# Altium footprint library SmartTokens.PcbLib: 28 footprints (part 1 of 2)
Each footprint in its own frame and in the unit in brackets; x right, y up, seen from the top. Pads: shape width x height; smd on the part's side, far side on the other; paste and mask are expansions set on the pad; w line width, h text height; cw(c..) or ccw(c..) is an arc to the next point about the centre after c.
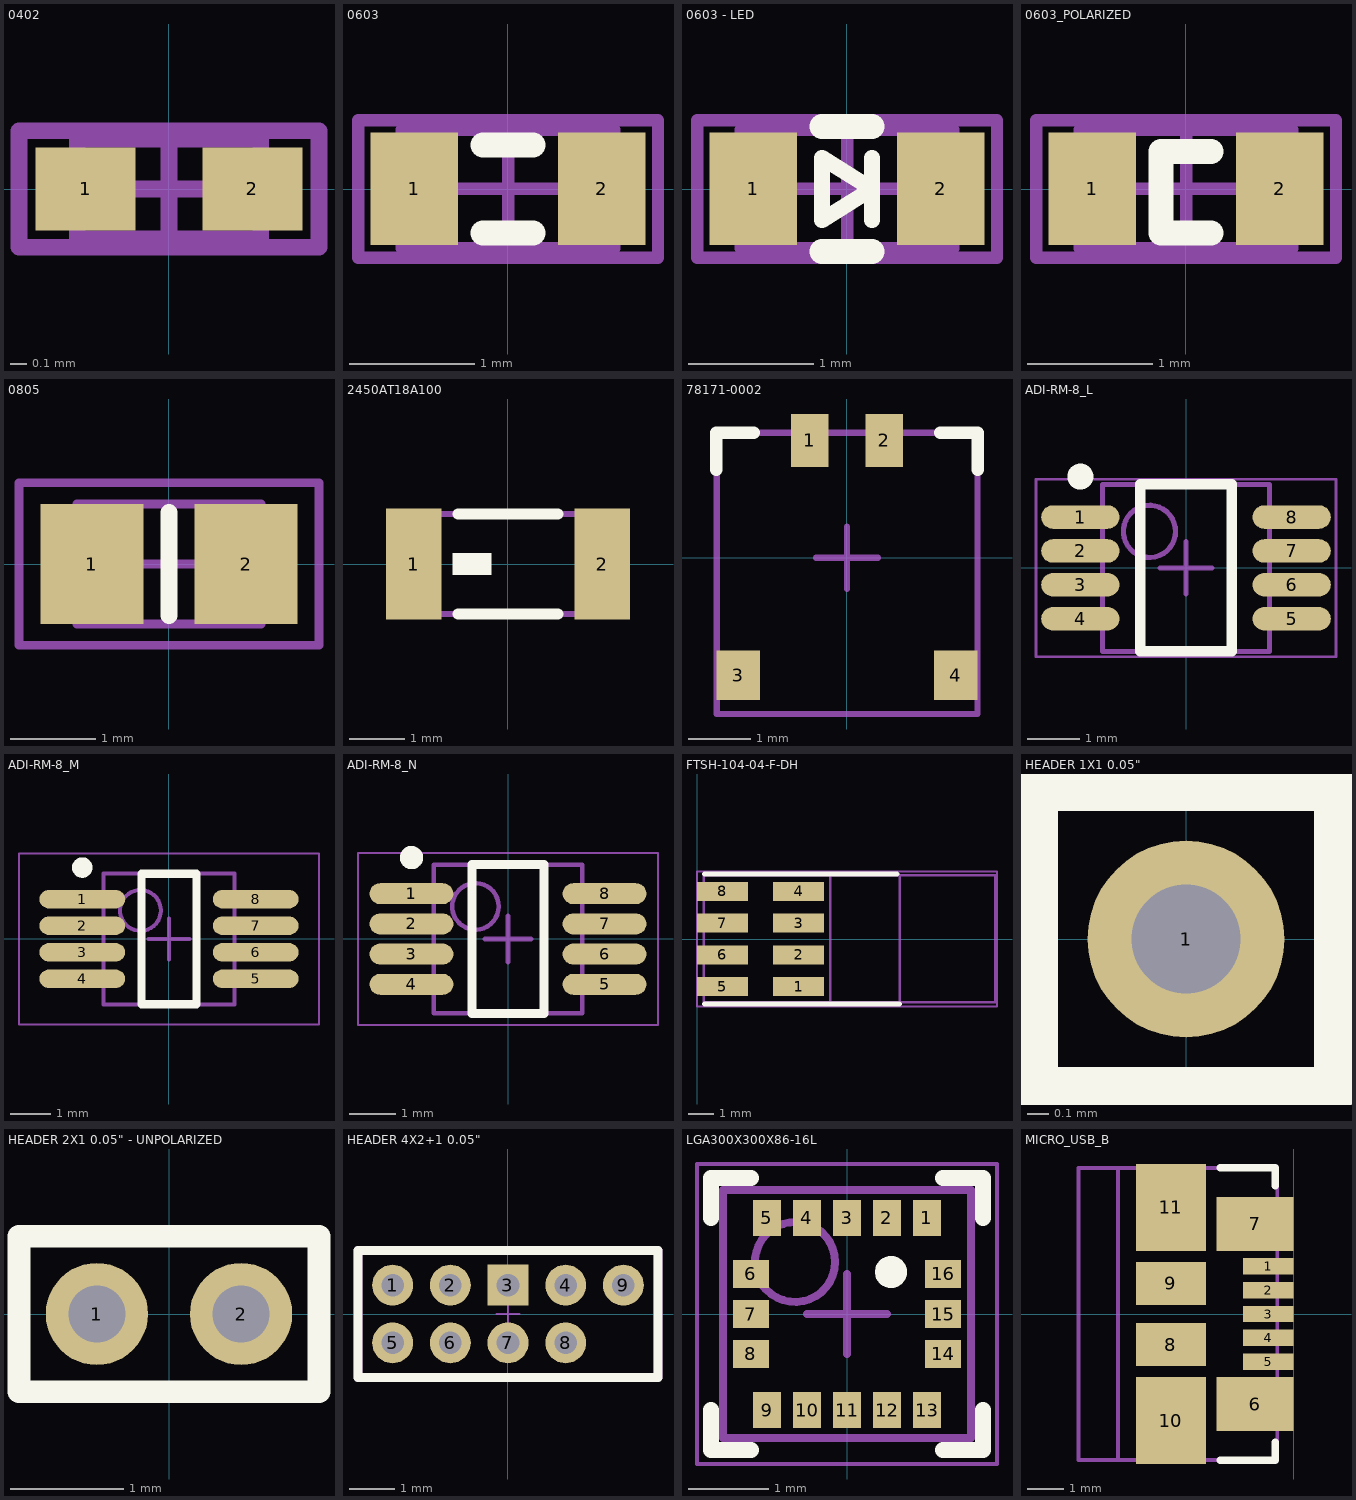
[diagram p0: the footprints below, top view; thin cyan lines are the x and y axes]

## 0402 [mm] "Chip Body 1.0 x 0.5 mm (LxW typ)"
height 0.55
pads (2):
  rect 0.6x0.5 smd: 1(-0.5,0) 2(0.5,0)
Mechanical 13:
  lines w0.1: -0.55,-0.3 -0.55,0.3 0.55,0.3 0.55,-0.3 -0.55,-0.3
Mechanical 15:
  lines w0.1: -0.3,0 0.3,0 ; 0,-0.3 0,0.3 ; -0.9,-0.35 -0.9,0.35 0.9,0.35 0.9,-0.35 -0.9,-0.35
3D body: height 0.55, standoff 0, extent -0.55,-0.3 0.55,0.3

## 0603 [mm] "Chip Body 1.6 x 0.8 mm (LxW typ)"
height 0.87
pads (2):
  rect 0.7x0.9 smd: 1(-0.75,0) 2(0.75,0)
Top Overlay:
  lines w0.2: -0.2,-0.35 0.2,-0.35 ; -0.2,0.35 0.2,0.35
Mechanical 13:
  lines w0.1: -0.85,-0.475 -0.85,0.475 0.85,0.475 0.85,-0.475 -0.85,-0.475
Mechanical 15:
  lines w0.1: -0.475,0 0.475,0 ; 0,-0.475 0,0.475 ; -1.2,-0.55 -1.2,0.55 1.2,0.55 1.2,-0.55 -1.2,-0.55
3D body: height 0.9, standoff 0, extent -0.85,-0.475 0.85,0.475

## 0603 - LED [mm] "Chip Body 1.6 x 0.8 mm (LxW typ)"
height 0.87
pads (2):
  rect 0.7x0.9 smd: 1(-0.75,0) 2(0.75,0)
Top Overlay:
  lines w0.125: 0.2,-0.25 0.2,0.25 ; -0.2,-0.25 0.2,0 -0.2,0.25 -0.2,-0.25
  lines w0.2: -0.2,-0.5 0.2,-0.5 ; -0.2,0.5 0.2,0.5
Mechanical 13:
  lines w0.1: -0.85,-0.475 -0.85,0.475 0.85,0.475 0.85,-0.475 -0.85,-0.475
Mechanical 15:
  lines w0.1: -0.475,0 0.475,0 ; 0,-0.475 0,0.475 ; -1.2,-0.55 -1.2,0.55 1.2,0.55 1.2,-0.55 -1.2,-0.55
3D body: height 0.9, standoff 0, extent -0.85,-0.475 0.85,0.475

## 0603_POLARIZED [mm] "Chip Body 1.6 x 0.8 mm (LxW typ)"
height 0.87
pads (2):
  rect 0.7x0.9 smd: 1(-0.75,0) 2(0.75,0)
Top Overlay:
  lines w0.2: 0.2,-0.35 -0.2,-0.35 -0.2,0.3 0.2,0.3
Mechanical 13:
  lines w0.1: -0.85,-0.475 -0.85,0.475 0.85,0.475 0.85,-0.475 -0.85,-0.475
Mechanical 15:
  lines w0.1: -0.475,0 0.475,0 ; 0,-0.475 0,0.475 ; -1.2,-0.55 -1.2,0.55 1.2,0.55 1.2,-0.55 -1.2,-0.55
3D body: height 0.9, standoff 0, extent -0.85,-0.475 0.85,0.475

## 0805 [mm] "Chip Body 2.0 x 1.2 mm (LxW typ)"
height 1.3
pads (2):
  rect 1.2x1.4 smd: 1(-0.9,0) 2(0.9,0)
Top Overlay:
  lines w0.2: 0,-0.6 0,0.6
Mechanical 13:
  lines w0.1: -1.075,-0.7 -1.075,0.7 1.075,0.7 1.075,-0.7 -1.075,-0.7
Mechanical 15:
  lines w0.1: -0.5,0 0.5,0 ; 0,-0.5 0,0.5 ; -1.75,-0.95 -1.75,0.95 1.75,0.95 1.75,-0.95 -1.75,-0.95
3D body: height 1.3, standoff 0, extent -1.075,-0.7 1.075,0.7

## 2450AT18A100 [mm]
pads (2):
  rect 1x2 smd: 1(-1.7,0) 2(1.7,0)
Top Overlay:
  rectangle: -1,-0.2 -0.3,0.2
  lines w0.2: -0.9,-0.9 0.9,-0.9 ; -0.9,0.9 0.9,0.9
Mechanical 1:
  lines w0.1: -1.7,-0.9 1.7,-0.9 1.7,0.9 -1.7,0.9 -1.7,-0.9
3D body: height 1.9, standoff 0, extent -1.7,-0.9 1.7,0.9

## 78171-0002 [mm]
height 1.55
pads (4):
  rect 0.6x0.85 smd: 1(-0.6,1.888) 2(0.6,1.888)
  rect 0.7x0.8 smd: 3(-1.75,-1.887) 4(1.75,-1.887)
Top Overlay:
  lines w0.2: -2.1,1.413 -2.1,2.013 -1.5,2.013 ; 1.5,2.013 2.1,2.013 2.1,1.413
Mechanical 1:
  lines w0.1: -2.095,-2.512 2.1,-2.512 2.1,2.013 -2.095,2.013 -2.095,-2.512
Mechanical 15:
  lines w0.1: -0.5,0 0.5,0 ; 0,-0.5 0,0.5
3D body: height 1.45, standoff 0, extent -2.1,-2.512 2.1,2.018

## ADI-RM-8_L [mm] "SOP, 8-Leads, Body 3x3mm, Pitch 0.65mm, IPC High Density"
height 1.1
pads (8):
  oval 1.5x0.45 smd: 1(-2.025,0.975) 2(-2.025,0.325) 3(-2.025,-0.325) 4(-2.025,-0.975) 5(2.025,-0.975) 6(2.025,-0.325) 7(2.025,0.325) 8(2.025,0.975)
Top Overlay:
  circle w0.25: c-2.025,1.75 r0.125
  lines w0.2: -0.875,-1.6 -0.875,1.6 0.875,1.6 0.875,-1.6 -0.875,-1.6
Mechanical 13:
  circle w0.1: c-0.7,0.7 r0.5
  lines w0.1: -1.6,-1.6 -1.6,1.6 1.6,1.6 1.6,-1.6 -1.6,-1.6
Mechanical 15:
  lines w0.05: -2.875,-1.7 -2.875,1.7 2.875,1.7 2.875,-1.7 -2.875,-1.7
  lines w0.1: -0.5,0 0.5,0 ; 0,-0.5 0,0.5
3D body: height 1.1, standoff 0, extent -1.6,-1.6 1.6,1.6

## ADI-RM-8_M [mm] "SOP, 8-Leads, Body 3x3mm, Pitch 0.65mm, IPC Low Density"
height 1.1
pads (8):
  oval 2.1x0.45 smd: 1(-2.125,0.975) 2(-2.125,0.325) 3(-2.125,-0.325) 4(-2.125,-0.975) 5(2.125,-0.975) 6(2.125,-0.325) 7(2.125,0.325) 8(2.125,0.975)
Top Overlay:
  circle w0.25: c-2.125,1.75 r0.125
  lines w0.2: -0.675,-1.6 -0.675,1.6 0.675,1.6 0.675,-1.6 -0.675,-1.6
Mechanical 13:
  circle w0.1: c-0.7,0.7 r0.5
  lines w0.1: -1.6,-1.6 -1.6,1.6 1.6,1.6 1.6,-1.6 -1.6,-1.6
Mechanical 15:
  lines w0.05: -3.675,-2.1 -3.675,2.1 3.675,2.1 3.675,-2.1 -3.675,-2.1
  lines w0.1: -0.5,0 0.5,0 ; 0,-0.5 0,0.5
3D body: height 1.1, standoff 0, extent -1.6,-1.6 1.6,1.6

## ADI-RM-8_N [mm] "SOP, 8-Leads, Body 3x3mm, Pitch 0.65mm, IPC Medium Density"
height 1.1
pads (8):
  oval 1.8x0.45 smd: 1(-2.075,0.975) 2(-2.075,0.325) 3(-2.075,-0.325) 4(-2.075,-0.975) 5(2.075,-0.975) 6(2.075,-0.325) 7(2.075,0.325) 8(2.075,0.975)
Top Overlay:
  circle w0.25: c-2.075,1.75 r0.125
  lines w0.2: -0.775,-1.6 -0.775,1.6 0.775,1.6 0.775,-1.6 -0.775,-1.6
Mechanical 13:
  circle w0.1: c-0.7,0.7 r0.5
  lines w0.1: -1.6,-1.6 -1.6,1.6 1.6,1.6 1.6,-1.6 -1.6,-1.6
Mechanical 15:
  lines w0.05: -3.225,-1.85 -3.225,1.85 3.225,1.85 3.225,-1.85 -3.225,-1.85
  lines w0.1: -0.5,0 0.5,0 ; 0,-0.5 0,0.5
3D body: height 1.1, standoff 0, extent -1.6,-1.6 1.6,1.6

## FTSH-104-04-F-DH [mil]
pads (8):
  rect 80x30 smd: 1(160,-75) 2(160,-25) 3(160,25) 4(160,75) 5(40,-75) 6(40,-25) 7(40,25) 8(40,75)
Top Overlay:
  lines w7.87: 11.81,-102.36 318.9,-102.36 ; 11.81,102.36 314.96,102.36
Mechanical 1:
  lines w3.94: 210,-99.99 210,100.01 ; 319.47,-99.99 319.47,100.01 ; 10.47,-99.99 469.47,-99.99 469.47,100.01 10.47,100.01 10.47,-99.99
Mechanical 15:
  lines w3.94: 0,-106.3 472.44,-106.3 472.44,106.3 0,106.3 0,-106.3
3D body: height 135.48, standoff 0.48, extent 10.47,-99.99 469.47,100.01

## HEADER 1X1 0.05" [mm]
pads (1):
  round 0.9 hole 0.5: 1(0,0)
Top Overlay:
  lines w0.2: -0.686,-0.686 0.686,-0.686 0.686,0.686 -0.686,0.686 -0.686,-0.686

## HEADER 2X1 0.05" - UNPOLARIZED [mm]
pads (2):
  round 0.9 hole 0.5: 1(-0.635,0) 2(0.635,0)
Top Overlay:
  lines w0.2: -1.321,-0.686 1.321,-0.686 1.321,0.686 -1.321,0.686 -1.321,-0.686

## HEADER 4X2+1 0.05" [mm]
pads (9):
  round 0.9 hole 0.5: 1(-2.54,0.635) 2(-1.27,0.635) 4(1.27,0.635) 5(-2.54,-0.635) 6(-1.27,-0.635) 7(0,-0.635) 8(1.27,-0.635) 9(2.54,0.635)
  rect 0.9x0.9 hole 0.5: 3(0,0.635)
Top Overlay:
  lines w0.2: -3.302,-1.397 3.302,-1.397 3.302,1.397 -3.302,1.397 -3.302,-1.397
Mechanical 15:
  lines w0.05: -0.25,0 0.25,0 ; 0,-0.25 0,0.25
  lines w0.2: -3.302,-1.397 3.302,-1.397 3.302,1.397 -3.302,1.397 -3.302,-1.397

## LGA300X300X86-16L [mm] "LGA, 16-Leads, Body 3.00x3.00mm, Pitch 0.50mm, IPC High Density"
height 0.86
pads (16):
  rect 0.35x0.45 smd: 1(1,1.2) 2(0.5,1.2) 3(0,1.2) 4(-0.5,1.2) 5(-1,1.2) 9(-1,-1.2) 10(-0.5,-1.2) 11(0,-1.2) 12(0.5,-1.2) 13(1,-1.2)
  rect 0.45x0.35 smd: 6(-1.2,0.5) 7(-1.2,0) 8(-1.2,-0.5) 14(1.2,-0.5) 15(1.2,0) 16(1.2,0.5)
Top Overlay:
  circle w0.2: c0.55,0.525 r0.1
  lines w0.2: -1.7,-1.2 -1.7,-1.7 -1.2,-1.7 ; -1.7,1.2 -1.7,1.7 -1.2,1.7 ; 1.2,-1.7 1.7,-1.7 1.7,-1.2 ; 1.2,1.7 1.7,1.7 1.7,1.2
Mechanical 13:
  circle w0.1: c-0.65,0.65 r0.5
  lines w0.1: -1.55,-1.55 1.55,-1.55 1.55,1.55 -1.55,1.55 -1.55,-1.55
Mechanical 15:
  lines w0.05: -1.875,-1.875 1.875,-1.875 1.875,1.875 -1.875,1.875 -1.875,-1.875
  lines w0.1: -0.5,0 0.5,0 ; 0,-0.5 0,0.5
3D body: height 0.86, standoff 0.13, extent -1.55,-1.55 1.55,1.55

## MICRO_USB_B [mm]
pads (11):
  rect 1.38x0.45 smd: 1(-0.69,1.3) 2(-0.69,0.65) 3(-0.69,0) 4(-0.69,-0.65) 5(-0.69,-1.3)
  rect 2.1x1.475 smd: 6(-1.05,-2.462) 7(-1.05,2.462)
  rect 1.9x1.175 smd: 8(-3.35,-0.837) 9(-3.35,0.837)
  rect 1.9x2.375 smd: 10(-3.35,-2.913) 11(-3.35,2.913)
Top Overlay:
  lines w0.2: -2,-4 -0.5,-4 -0.5,-3.5 ; -2,4 -0.5,4 -0.5,3.5
Mechanical 1:
  lines w0.1: -5.88,3.99 -5.88,-3.99 -0.45,-3.99 ; -4.8,-4 -4.8,4
Mechanical 13:
  lines w0.1: -5.88,3.99 -0.45,3.99 -0.45,-3.99
3D body: height 2.69, standoff -0.25, extent -5.88,-3.99 -0.45,3.99